# EAGLE library part RM-NOISE-DIST-V1.0 (library XM8)
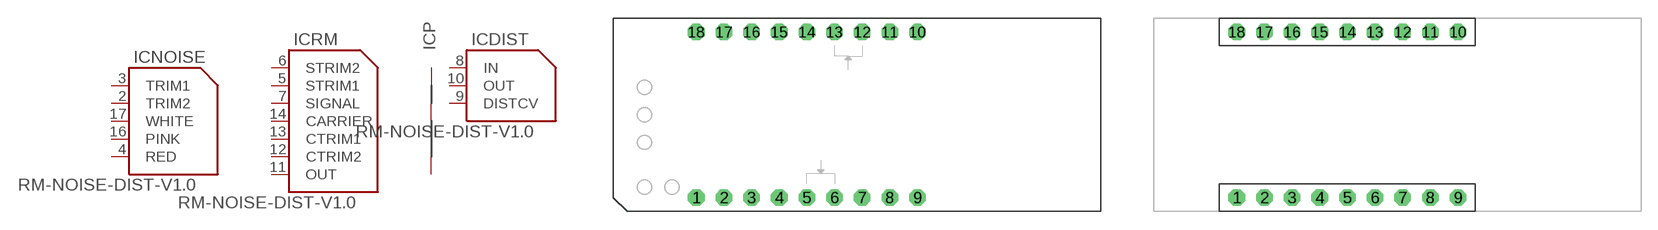
[diagram p29: symbol with the pads of XM8-RM-NOISE-DIST-V1.0; footprints XM8-RM-NOISE-DIST-V1.0, XM8-RM-NOISE-DIST-V1.0N]

Designator prefix IC; gates RM=XM8-RING-MOD-V2.0 NOISE=XM8-NOISE-V2.1 P=XM8-PWR DIST=XM8-DISTORTION-V1.3

## RM-NOISE-DIST-V1.0.0  [XM8-RM-NOISE-DIST-V1.0]
1  P:-V  pwr
2  NOISE:TRIM2
3  NOISE:TRIM1
4  NOISE:RED
5  RM:STRIM1
6  RM:STRIM2
7  RM:SIGNAL
8  DIST:IN
9  DIST:DISTCV
10  DIST:OUT  out
11  RM:OUT
12  RM:CTRIM2
13  RM:CTRIM1
14  RM:CARRIER
15  P:AGND  pwr
16  NOISE:PINK
17  NOISE:WHITE
18  P:+V  pwr

## RM-NOISE-DIST-V1.0.0N  [XM8-RM-NOISE-DIST-V1.0N]
Pads as for XM8-RM-NOISE-DIST-V1.0

## Footprint XM8-RM-NOISE-DIST-V1.0 (pad centres in mm)
Combined ring modulator, distortion and noise module
drill 1.016 octagon: 1 -8.89,-7.62; 2 -6.35,-7.62; 3 -3.81,-7.62; 4 -1.27,-7.62; 5 1.27,-7.62; 6 3.81,-7.62; 7 6.35,-7.62; 8 8.89,-7.62; 9 11.43,-7.62; 10 11.43,7.62; 11 8.89,7.62; 12 6.35,7.62; 13 3.81,7.62; 14 1.27,7.62; 15 -1.27,7.62; 16 -3.81,7.62; 17 -6.35,7.62; 18 -8.89,7.62

## Footprint XM8-RM-NOISE-DIST-V1.0N (pad centres in mm)
Combined ring modulator, distortion and noise module
drill 1.016 octagon: 1 -8.89,-7.62; 2 -6.35,-7.62; 3 -3.81,-7.62; 4 -1.27,-7.62; 5 1.27,-7.62; 6 3.81,-7.62; 7 6.35,-7.62; 8 8.89,-7.62; 9 11.43,-7.62; 10 11.43,7.62; 11 8.89,7.62; 12 6.35,7.62; 13 3.81,7.62; 14 1.27,7.62; 15 -1.27,7.62; 16 -3.81,7.62; 17 -6.35,7.62; 18 -8.89,7.62